# EAGLE library part STM8S103F3P3 (library STM8S103F3P3)
STM8S103F3P3, 8 bit STM8 Microcontroller 16MHz 640 B, 8 kB Flash, 1 kB RAM, I2C 20-Pin TSSOP Source: Datasheet <http://www.st.com/st-web-ui/static/active/en/resource/technical/document/datasheet/CD00226640.pdf>
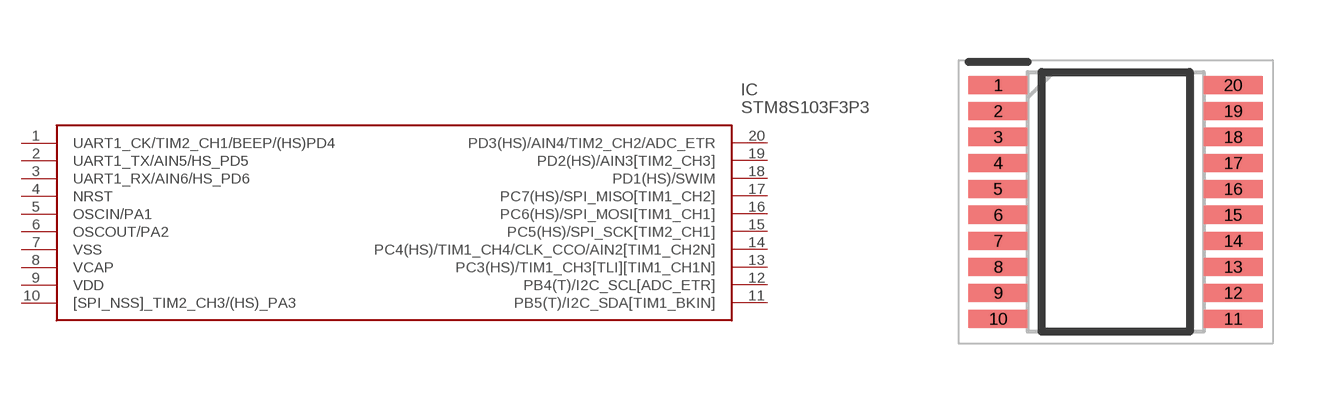
[diagram p0: symbol with the pads of SOP65P640X120-20N; footprint SOP65P640X120-20N]

Designator prefix IC

## STM8S103F3P3 (Arrow_Part_Number: STM8S103F3P3; Arrow_Price-Stock: https://www.arrow.com/en/products/stm8s103f3p3/stmicroelectronics; Description: STM8S103F3P3, 8 bit STM8 Microcontroller 16MHz 640 B, 8 kB Flash, 1 kB RAM, I2C 20-Pin TSSOP; Height: 1.2mm; Manufacturer_Name: STMicroelectronics; Manufacturer_Part_Number: STM8S103F3P3; Mouser_Part_Number: 511-STM8S103F3P3; Mouser_Price-Stock: https://www.mouser.co.uk/ProductDetail/STMicroelectronics/STM8S103F3P3?qs=pW7VN3fQ%252BU8KMQcj%2FU46Sw%3D%3D)  [SOP65P640X120-20N]
1  UART1_CK/TIM2_CH1/BEEP/(HS)PD4
2  UART1_TX/AIN5/HS_PD5
3  UART1_RX/AIN6/HS_PD6
4  NRST
5  OSCIN/PA1
6  OSCOUT/PA2
7  VSS
8  VCAP
9  VDD
10  [SPI_NSS]_TIM2_CH3/(HS)_PA3
11  PB5(T)/I2C_SDA[TIM1_BKIN]
12  PB4(T)/I2C_SCL[ADC_ETR]
13  PC3(HS)/TIM1_CH3[TLI][TIM1_CH1N]
14  PC4(HS)/TIM1_CH4/CLK_CCO/AIN2[TIM1_CH2N]
15  PC5(HS)/SPI_SCK[TIM2_CH1]
16  PC6(HS)/SPI_MOSI[TIM1_CH1]
17  PC7(HS)/SPI_MISO[TIM1_CH2]
18  PD1(HS)/SWIM
19  PD2(HS)/AIN3[TIM2_CH3]
20  PD3(HS)/AIN4/TIM2_CH2/ADC_ETR

## Footprint SOP65P640X120-20N (pad centres in mm)
TSSOP-20
smd 1.475 x 0.45: 1 -2.938,2.925; 2 -2.938,2.275; 3 -2.938,1.625; 4 -2.938,0.975; 5 -2.938,0.325; 6 -2.938,-0.325; 7 -2.938,-0.975; 8 -2.938,-1.625; 9 -2.938,-2.275; 10 -2.938,-2.925; 11 2.938,-2.925; 12 2.938,-2.275; 13 2.938,-1.625; 14 2.938,-0.975; 15 2.938,-0.325; 16 2.938,0.325; 17 2.938,0.975; 18 2.938,1.625; 19 2.938,2.275; 20 2.938,2.925